# EAGLE library part TSL2561 (library pimoroni)
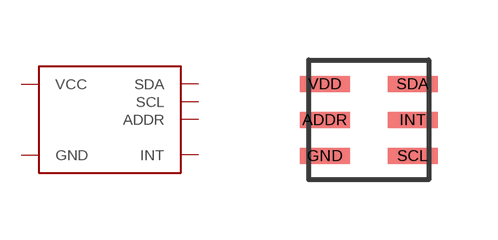
[diagram p47: symbol with the pads of TSL2561; footprint TSL2561]

Designator prefix -

## TSL2561FN  [TSL2561]
ADDR  ADDR
GND  GND
INT  INT
SCL  SCL
SDA  SDA
VDD  VCC

## Footprint TSL2561 (pad centres in mm)
smd 1.25 x 0.4: ADDR -1.1,0; GND -1.1,-0.9; INT 1.1,0; SCL 1.1,-0.9; SDA 1.1,0.9; VDD -1.1,0.9